# Altium schematic symbol library SCH - MCU - INFINEON XMC - INFINEON XMC1404F064.SchLib: 1 symbol
Pins are listed as number, name and electrical type; pins without a type are passive.

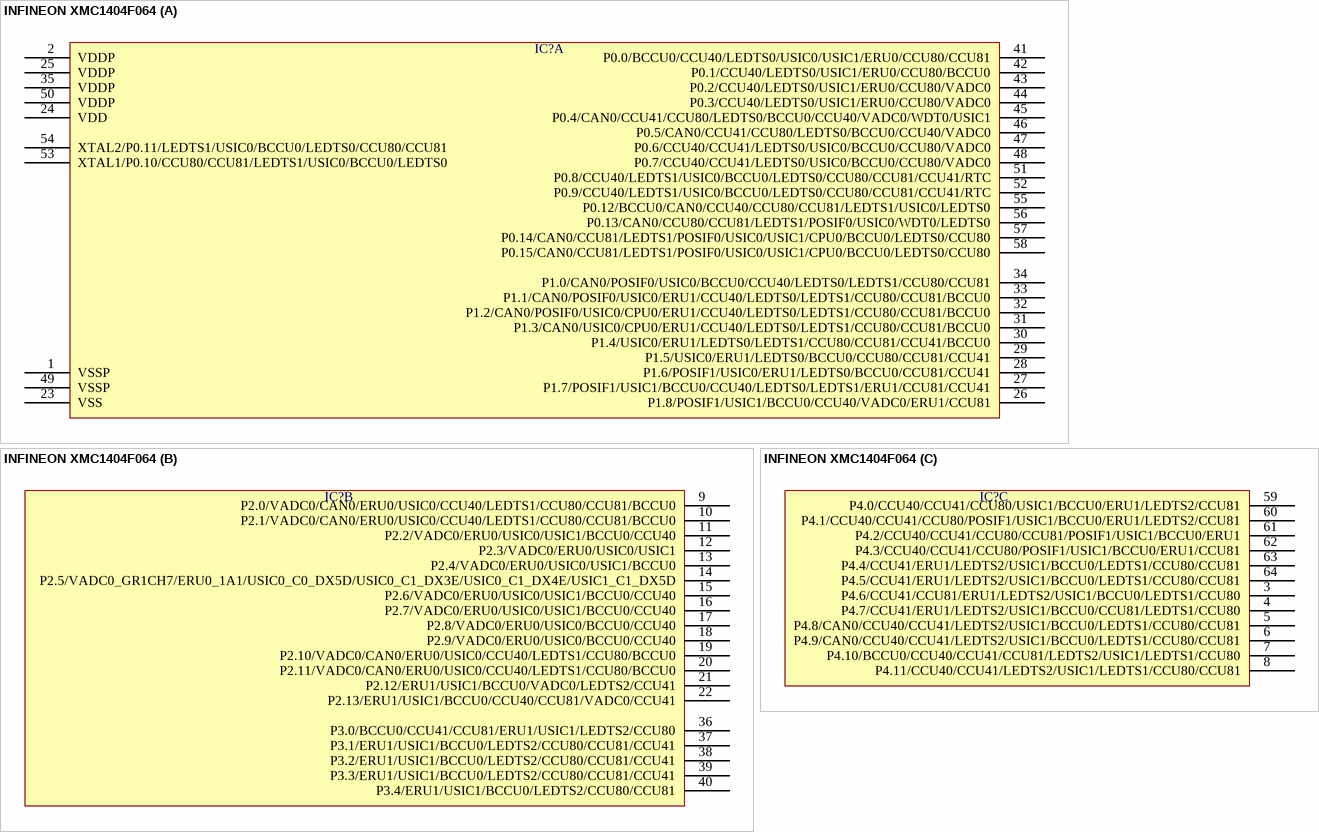
[diagram p0: symbol INFINEON XMC1404F064]

## INFINEON XMC1404F064
designator IC?  (value not drawn)
part A pins: 1 VSSP, 2 VDDP, 23 VSS, 24 VDD, 25 VDDP, 26 P1.8/POSIF1/USIC1/BCCU0/CCU40/VADC0/ERU1/CCU81, 27 P1.7/POSIF1/USIC1/BCCU0/CCU40/LEDTS0/LEDTS1/ERU1/CCU81/CCU41, 28 P1.6/POSIF1/USIC0/ERU1/LEDTS0/BCCU0/CCU81/CCU41, 29 P1.5/USIC0/ERU1/LEDTS0/BCCU0/CCU80/CCU81/CCU41, 30 P1.4/USIC0/ERU1/LEDTS0/LEDTS1/CCU80/CCU81/CCU41/BCCU0, 31 P1.3/CAN0/USIC0/CPU0/ERU1/CCU40/LEDTS0/LEDTS1/CCU80/CCU81/BCCU0, 32 P1.2/CAN0/POSIF0/USIC0/CPU0/ERU1/CCU40/LEDTS0/LEDTS1/CCU80/CCU81/BCCU0, 33 P1.1/CAN0/POSIF0/USIC0/ERU1/CCU40/LEDTS0/LEDTS1/CCU80/CCU81/BCCU0, 34 P1.0/CAN0/POSIF0/USIC0/BCCU0/CCU40/LEDTS0/LEDTS1/CCU80/CCU81, 35 VDDP, 41 P0.0/BCCU0/CCU40/LEDTS0/USIC0/USIC1/ERU0/CCU80/CCU81, 42 P0.1/CCU40/LEDTS0/USIC1/ERU0/CCU80/BCCU0, 43 P0.2/CCU40/LEDTS0/USIC1/ERU0/CCU80/VADC0, 44 P0.3/CCU40/LEDTS0/USIC1/ERU0/CCU80/VADC0, 45 P0.4/CAN0/CCU41/CCU80/LEDTS0/BCCU0/CCU40/VADC0/WDT0/USIC1, 46 P0.5/CAN0/CCU41/CCU80/LEDTS0/BCCU0/CCU40/VADC0, 47 P0.6/CCU40/CCU41/LEDTS0/USIC0/BCCU0/CCU80/VADC0, 48 P0.7/CCU40/CCU41/LEDTS0/USIC0/BCCU0/CCU80/VADC0, 49 VSSP, 50 VDDP, 51 P0.8/CCU40/LEDTS1/USIC0/BCCU0/LEDTS0/CCU80/CCU81/CCU41/RTC, 52 P0.9/CCU40/LEDTS1/USIC0/BCCU0/LEDTS0/CCU80/CCU81/CCU41/RTC, 53 XTAL1/P0.10/CCU80/CCU81/LEDTS1/USIC0/BCCU0/LEDTS0, 54 XTAL2/P0.11/LEDTS1/USIC0/BCCU0/LEDTS0/CCU80/CCU81, 55 P0.12/BCCU0/CAN0/CCU40/CCU80/CCU81/LEDTS1/USIC0/LEDTS0, 56 P0.13/CAN0/CCU80/CCU81/LEDTS1/POSIF0/USIC0/WDT0/LEDTS0, 57 P0.14/CAN0/CCU81/LEDTS1/POSIF0/USIC0/USIC1/CPU0/BCCU0/LEDTS0/CCU80, 58 P0.15/CAN0/CCU81/LEDTS1/POSIF0/USIC0/USIC1/CPU0/BCCU0/LEDTS0/CCU80
part B pins: 9 P2.0/VADC0/CAN0/ERU0/USIC0/CCU40/LEDTS1/CCU80/CCU81/BCCU0, 10 P2.1/VADC0/CAN0/ERU0/USIC0/CCU40/LEDTS1/CCU80/CCU81/BCCU0, 11 P2.2/VADC0/ERU0/USIC0/USIC1/BCCU0/CCU40, 12 P2.3/VADC0/ERU0/USIC0/USIC1, 13 P2.4/VADC0/ERU0/USIC0/USIC1/BCCU0, 14 P2.5/VADC0_GR1CH7/ERU0_1A1/USIC0_C0_DX5D/USIC0_C1_DX3E/USIC0_C1_DX4E/USIC1_C1_DX5D, 15 P2.6/VADC0/ERU0/USIC0/USIC1/BCCU0/CCU40, 16 P2.7/VADC0/ERU0/USIC0/USIC1/BCCU0/CCU40, 17 P2.8/VADC0/ERU0/USIC0/BCCU0/CCU40, 18 P2.9/VADC0/ERU0/USIC0/BCCU0/CCU40, 19 P2.10/VADC0/CAN0/ERU0/USIC0/CCU40/LEDTS1/CCU80/BCCU0, 20 P2.11/VADC0/CAN0/ERU0/USIC0/CCU40/LEDTS1/CCU80/BCCU0, 21 P2.12/ERU1/USIC1/BCCU0/VADC0/LEDTS2/CCU41, 22 P2.13/ERU1/USIC1/BCCU0/CCU40/CCU81/VADC0/CCU41, 36 P3.0/BCCU0/CCU41/CCU81/ERU1/USIC1/LEDTS2/CCU80, 37 P3.1/ERU1/USIC1/BCCU0/LEDTS2/CCU80/CCU81/CCU41, 38 P3.2/ERU1/USIC1/BCCU0/LEDTS2/CCU80/CCU81/CCU41, 39 P3.3/ERU1/USIC1/BCCU0/LEDTS2/CCU80/CCU81/CCU41, 40 P3.4/ERU1/USIC1/BCCU0/LEDTS2/CCU80/CCU81
part C pins: 3 P4.6/CCU41/CCU81/ERU1/LEDTS2/USIC1/BCCU0/LEDTS1/CCU80, 4 P4.7/CCU41/ERU1/LEDTS2/USIC1/BCCU0/CCU81/LEDTS1/CCU80, 5 P4.8/CAN0/CCU40/CCU41/LEDTS2/USIC1/BCCU0/LEDTS1/CCU80/CCU81, 6 P4.9/CAN0/CCU40/CCU41/LEDTS2/USIC1/BCCU0/LEDTS1/CCU80/CCU81, 7 P4.10/BCCU0/CCU40/CCU41/CCU81/LEDTS2/USIC1/LEDTS1/CCU80, 8 P4.11/CCU40/CCU41/LEDTS2/USIC1/LEDTS1/CCU80/CCU81, 59 P4.0/CCU40/CCU41/CCU80/USIC1/BCCU0/ERU1/LEDTS2/CCU81, 60 P4.1/CCU40/CCU41/CCU80/POSIF1/USIC1/BCCU0/ERU1/LEDTS2/CCU81, 61 P4.2/CCU40/CCU41/CCU80/CCU81/POSIF1/USIC1/BCCU0/ERU1, 62 P4.3/CCU40/CCU41/CCU80/POSIF1/USIC1/BCCU0/ERU1/CCU81, 63 P4.4/CCU41/ERU1/LEDTS2/USIC1/BCCU0/LEDTS1/CCU80/CCU81, 64 P4.5/CCU41/ERU1/LEDTS2/USIC1/BCCU0/LEDTS1/CCU80/CCU81